# EAGLE library part SSM2301 (library Mine)
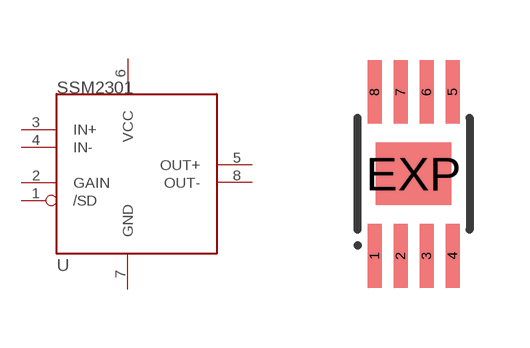
[diagram p37: symbol with the pads of MSOP8; footprint MSOP8]

Designator prefix -

## SSM2301  [MSOP8]
1  /SD  in
2  GAIN  in
3  IN+  in
4  IN-  in
5  OUT+  out
6  VCC  sup
7  GND  sup
8  OUT-  out

## Footprint MSOP8 (pad centres in mm)
Micro Small Outline Package
smd 0.35 x 1.6: 1 -0.975,-2.05; 2 -0.325,-2.05; 3 0.325,-2.05; 4 0.975,-2.05; 5 0.975,2.05; 6 0.325,2.05; 7 -0.325,2.05; 8 -0.975,2.05
smd 1.89 x 1.57: EXP 0,0